# Altium footprint library nfc_3911_pcblib.PcbLib: 4 footprints
Each footprint in its own frame and in the unit in brackets; x right, y up, seen from the top. Pads: shape width x height; smd on the part's side, far side on the other; paste and mask are expansions set on the pad; w line width, h text height; cw(c..) or ccw(c..) is an arc to the next point about the centre after c.
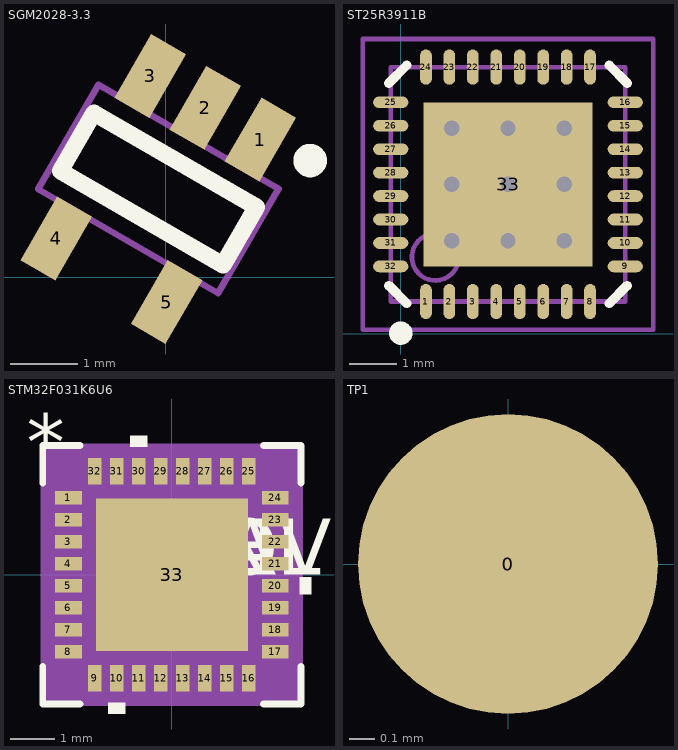
[diagram p0: the footprints below, top view; thin cyan lines are the x and y axes]

## SGM2028-3.3 [mm]
pads (5):
  rect 0.6x1.1 smd rot 150: 1(1.412,2.051) 2(0.589,2.526) 3(-0.234,3.001) 4(-1.634,0.577) 5(0.012,-0.373)
Top Overlay:
  circle w0.25: c2.155,1.738 r0.125
  lines w0.254: -1.573,1.581 -1.073,2.447 1.351,1.047 0.851,0.181 -1.573,1.581
Mechanical 13:
  lines w0.1: -1.903,1.31 0.781,-0.24 1.681,1.318 -1.003,2.868 -1.903,1.31

## ST25R3911B [mm]
pads (33):
  oval 0.25x0.75 smd: 1(0.534,0.682) 2(1.034,0.682) 3(1.534,0.682) 4(2.034,0.682) 5(2.534,0.682) 6(3.034,0.682) 7(3.534,0.682) 8(4.034,0.682) 17(4.034,5.682) 18(3.534,5.682) 19(3.034,5.682) 20(2.534,5.682) 21(2.034,5.682) 22(1.534,5.682) 23(1.034,5.682) 24(0.534,5.682)
  oval 0.75x0.25 smd: 9(4.784,1.432) 10(4.784,1.932) 11(4.784,2.432) 12(4.784,2.932) 13(4.784,3.432) 14(4.784,3.932) 15(4.784,4.432) 16(4.784,4.932) 25(-0.216,4.932) 26(-0.216,4.432) 27(-0.216,3.932) 28(-0.216,3.432) 29(-0.216,2.932) 30(-0.216,2.432) 31(-0.216,1.932) 32(-0.216,1.432)
  rect 3.6x3.5 smd paste-10: 33(2.284,3.182)
via 1.084,1.982 diameter 0.66 hole 0.33
via 1.084,3.182 diameter 0.66 hole 0.33
via 1.084,4.382 diameter 0.66 hole 0.33
via 2.284,1.982 diameter 0.66 hole 0.33
via 2.284,3.182 diameter 0.66 hole 0.33
via 2.284,4.382 diameter 0.66 hole 0.33
via 3.484,1.982 diameter 0.66 hole 0.33
via 3.484,3.182 diameter 0.66 hole 0.33
via 3.484,4.382 diameter 0.66 hole 0.33
Top Overlay:
  circle w0.25: c-0.002,0.009 r0.125
  lines w0.2: -0.256,1.023 0.125,0.642 ; -0.256,5.341 0.125,5.722 ; 4.443,0.642 4.824,1.023 ; 4.443,5.722 4.824,5.341
Top Paste:
  region: 2.105,1.836 1.266,1.836 1.266,1.455 2.105,1.455
  region: 3.298,1.836 2.46,1.836 2.46,1.455 3.298,1.455
  region: 3.3,4.908 2.462,4.908 2.462,4.527 3.3,4.527
  region: 2.105,4.909 1.266,4.909 1.266,4.528 2.105,4.528
  region: 4.037,3.361 4.037,4.2 3.656,4.2 3.656,3.361
  region: 4.037,2.142 4.037,2.98 3.656,2.98 3.656,2.142
  region: 0.912,2.168 0.912,3.006 0.531,3.006 0.531,2.168
  region: 0.912,3.361 0.912,4.2 0.531,4.2 0.531,3.361
  region: 3.298,2.166 3.298,3.004 2.46,3.004 2.46,2.166
  region: 3.302,3.36 3.302,4.198 2.463,4.198 2.463,3.36
  region: 2.106,3.358 2.106,4.196 1.268,4.196 1.268,3.358
  region: 2.105,2.166 2.105,3.004 1.266,3.004 1.266,2.166
Mechanical 13:
  circle w0.1: c0.734,1.632 r0.5
  lines w0.1: -0.216,0.682 4.784,0.682 4.784,5.682 -0.216,5.682 -0.216,0.682
Mechanical 15:
  lines w0.1: 1.784,3.182 2.784,3.182 ; 2.284,2.682 2.284,3.682 ; -0.816,0.082 5.384,0.082 5.384,6.282 -0.816,6.282 -0.816,0.082
3D body "25R3911-QFN32-5.STEP": height 0.85, standoff 0, extent -0.217,0.681 4.785,5.683

## STM32F031K6U6 [mil]
pads (33):
  rect 24x12 smd paste-6: 1(-92.52,68.92) 2(-92.52,49.23) 3(-92.52,29.54) 4(-92.52,9.85) 5(-92.52,-9.85) 6(-92.52,-29.54) 7(-92.52,-49.23) 8(-92.52,-68.92) 17(92.52,-68.92) 18(92.52,-49.23) 19(92.52,-29.54) 20(92.52,-9.85) 21(92.52,9.85) 22(92.52,29.54) 23(92.52,49.23) 24(92.52,68.92)
  rect 12x24 smd paste-6: 9(-68.92,-92.52) 10(-49.23,-92.52) 11(-29.54,-92.52) 12(-9.85,-92.52) 13(9.85,-92.52) 14(29.54,-92.52) 15(49.23,-92.52) 16(68.92,-92.52) 25(68.92,92.52) 26(49.23,92.52) 27(29.54,92.52) 28(9.85,92.52) 29(-9.85,92.52) 30(-29.54,92.52) 31(-49.23,92.52) 32(-68.92,92.52)
  rect 136x136 smd paste-68: 33(0,0)
Top Overlay:
  region: -22.04,114.52 -37.03,114.52 -37.03,124.52 -22.04,124.52
  region: 114.52,-2.35 124.52,-2.35 124.52,-17.34 114.52,-17.34
  region: -41.73,-114.52 -56.73,-114.52 -56.73,-124.52 -41.73,-124.52
  lines w6: -115.5,-82.06 -115.5,-115.5 -82.06,-115.5 ; -115.5,82.06 -115.5,115.5 -82.06,115.5 ; 82.06,-115.5 115.5,-115.5 115.5,-82.06 ; 82.06,115.5 115.5,115.5 115.5,82.06
  text "TOL" at 0,0 h50
  text "VAL" at 0,0 h50
  text "DEV" at 0,0 h50
  text "PN" at 0,0 h50
  text "*" at -129.52,93.76 h50
Top Paste:
  region: 64.06,-3.94 3.94,-3.94 3.94,-64.06 64.06,-64.06
  region: 64.06,64.06 3.94,64.06 3.94,3.94 64.06,3.94
  region: -3.94,-3.94 -64.06,-3.94 -64.06,-64.06 -3.94,-64.06
  region: -3.94,64.06 -64.06,64.06 -64.06,3.94 -3.94,3.94
  region: -62.91,104.52 -74.92,104.52 -74.92,80.52 -62.91,80.52
  region: -43.23,104.52 -55.23,104.52 -55.23,80.52 -43.23,80.52
  region: -23.54,104.52 -35.53,104.52 -35.53,80.52 -23.54,80.52
  region: -3.85,104.52 -15.85,104.52 -15.85,80.52 -3.85,80.52
  region: 15.85,104.52 3.85,104.52 3.85,80.52 15.85,80.52
  region: 35.53,104.52 23.54,104.52 23.54,80.52 35.53,80.52
  region: 55.23,104.52 43.23,104.52 43.23,80.52 55.23,80.52
  region: 74.92,104.52 62.91,104.52 62.91,80.52 74.92,80.52
  region: 104.52,74.92 80.52,74.92 80.52,62.91 104.52,62.91
  region: 104.52,55.23 80.52,55.23 80.52,43.23 104.52,43.23
  region: 104.52,35.53 80.52,35.53 80.52,23.54 104.52,23.54
  region: 104.52,15.85 80.52,15.85 80.52,3.85 104.52,3.85
  region: 104.52,-3.85 80.52,-3.85 80.52,-15.85 104.52,-15.85
  region: 104.52,-23.54 80.52,-23.54 80.52,-35.53 104.52,-35.53
  region: 104.52,-43.23 80.52,-43.23 80.52,-55.23 104.52,-55.23
  region: 104.52,-62.91 80.52,-62.91 80.52,-74.92 104.52,-74.92
  region: 74.92,-80.52 62.91,-80.52 62.91,-104.52 74.92,-104.52
  region: 55.23,-80.52 43.23,-80.52 43.23,-104.52 55.23,-104.52
  region: 35.53,-80.52 23.54,-80.52 23.54,-104.52 35.53,-104.52
  region: 15.85,-80.52 3.85,-80.52 3.85,-104.52 15.85,-104.52
  region: -3.85,-80.52 -15.85,-80.52 -15.85,-104.52 -3.85,-104.52
  region: -23.54,-80.52 -35.53,-80.52 -35.53,-104.52 -23.54,-104.52
  region: -43.23,-80.52 -55.23,-80.52 -55.23,-104.52 -43.23,-104.52
  region: -62.91,-80.52 -74.92,-80.52 -74.92,-104.52 -62.91,-104.52
  region: -80.52,-62.91 -104.52,-62.91 -104.52,-74.92 -80.52,-74.92
  region: -80.52,-43.23 -104.52,-43.23 -104.52,-55.23 -80.52,-55.23
  region: -80.52,-23.54 -104.52,-23.54 -104.52,-35.53 -80.52,-35.53
  region: -80.52,-3.85 -104.52,-3.85 -104.52,-15.85 -80.52,-15.85
  region: -80.52,15.85 -104.52,15.85 -104.52,3.85 -80.52,3.85
  region: -80.52,35.53 -104.52,35.53 -104.52,23.54 -80.52,23.54
  region: -80.52,55.23 -104.52,55.23 -104.52,43.23 -80.52,43.23
  region: -80.52,74.92 -104.52,74.92 -104.52,62.91 -80.52,62.91
Top Solder:
  region: -62.91,104.52 -74.92,104.52 -74.92,80.52 -62.91,80.52
  region: -43.23,104.52 -55.23,104.52 -55.23,80.52 -43.23,80.52
  region: -23.54,104.52 -35.53,104.52 -35.53,80.52 -23.54,80.52
  region: -3.85,104.52 -15.85,104.52 -15.85,80.52 -3.85,80.52
  region: 15.85,104.52 3.85,104.52 3.85,80.52 15.85,80.52
  region: 35.53,104.52 23.54,104.52 23.54,80.52 35.53,80.52
  region: 55.23,104.52 43.23,104.52 43.23,80.52 55.23,80.52
  region: 74.92,104.52 62.91,104.52 62.91,80.52 74.92,80.52
  region: 104.52,74.92 80.52,74.92 80.52,62.91 104.52,62.91
  region: 104.52,55.23 80.52,55.23 80.52,43.23 104.52,43.23
  region: 104.52,35.53 80.52,35.53 80.52,23.54 104.52,23.54
  region: 104.52,15.85 80.52,15.85 80.52,3.85 104.52,3.85
  region: 104.52,-3.85 80.52,-3.85 80.52,-15.85 104.52,-15.85
  region: 104.52,-23.54 80.52,-23.54 80.52,-35.53 104.52,-35.53
  region: 104.52,-43.23 80.52,-43.23 80.52,-55.23 104.52,-55.23
  region: 104.52,-62.91 80.52,-62.91 80.52,-74.92 104.52,-74.92
  region: 74.92,-80.52 62.91,-80.52 62.91,-104.52 74.92,-104.52
  region: 55.23,-80.52 43.23,-80.52 43.23,-104.52 55.23,-104.52
  region: 35.53,-80.52 23.54,-80.52 23.54,-104.52 35.53,-104.52
  region: 15.85,-80.52 3.85,-80.52 3.85,-104.52 15.85,-104.52
  region: -3.85,-80.52 -15.85,-80.52 -15.85,-104.52 -3.85,-104.52
  region: -23.54,-80.52 -35.53,-80.52 -35.53,-104.52 -23.54,-104.52
  region: -43.23,-80.52 -55.23,-80.52 -55.23,-104.52 -43.23,-104.52
  region: -62.91,-80.52 -74.92,-80.52 -74.92,-104.52 -62.91,-104.52
  region: -80.52,-62.91 -104.52,-62.91 -104.52,-74.92 -80.52,-74.92
  region: -80.52,-43.23 -104.52,-43.23 -104.52,-55.23 -80.52,-55.23
  region: -80.52,-23.54 -104.52,-23.54 -104.52,-35.53 -80.52,-35.53
  region: -80.52,-3.85 -104.52,-3.85 -104.52,-15.85 -80.52,-15.85
  region: -80.52,15.85 -104.52,15.85 -104.52,3.85 -80.52,3.85
  region: -80.52,35.53 -104.52,35.53 -104.52,23.54 -80.52,23.54
  region: -80.52,55.23 -104.52,55.23 -104.52,43.23 -80.52,43.23
  region: -80.52,74.92 -104.52,74.92 -104.52,62.91 -80.52,62.91
Mechanical 13:
  text "*" at -70.52,78.76 h50
Mechanical 15:
  region: -84.92,-110.5 -110.5,-110.5 -110.5,-84.92 -114.52,-84.92 -114.52,84.92 -110.5,84.92 -110.5,110.5 -84.92,110.5 -84.92,114.52 84.92,114.52 84.92,110.5 110.5,110.5 110.5,84.92 114.52,84.92 114.52,-84.92 110.5,-84.92 110.5,-110.5 84.92,-110.5 84.92,-114.52 -84.92,-114.52
  lines w6: -114.52,-84.92 -114.52,84.92 -110.5,84.92 -110.5,110.5 -84.92,110.5 -84.92,114.52 84.92,114.52 84.92,110.5 110.5,110.5 110.5,84.92 114.52,84.92 114.52,-84.92 110.5,-84.92 110.5,-110.5 84.92,-110.5 84.92,-114.52 -84.92,-114.52 -84.92,-110.5 -110.5,-110.5 -110.5,-84.92 -114.52,-84.92
Multi-Layer:
  text "Copyright (C) 2016 Accelerated Designs. All rights reserved" at 0,0 h1
3D body "UFQFPN32-5x5mm.stp": height 22.1, standoff 0, extent -102.5,-102.5 102.5,102.5

## TP1 [mil]
pads (1):
  round 47 smd: 0(0,0)